# Altium footprint library Logic_Analyzer.PcbLib: 1 footprints
Each footprint in its own frame and in the unit in brackets; x right, y up, seen from the top. Pads: shape width x height; smd on the part's side, far side on the other; paste and mask are expansions set on the pad; w line width, h text height; cw(c..) or ccw(c..) is an arc to the next point about the centre after c.
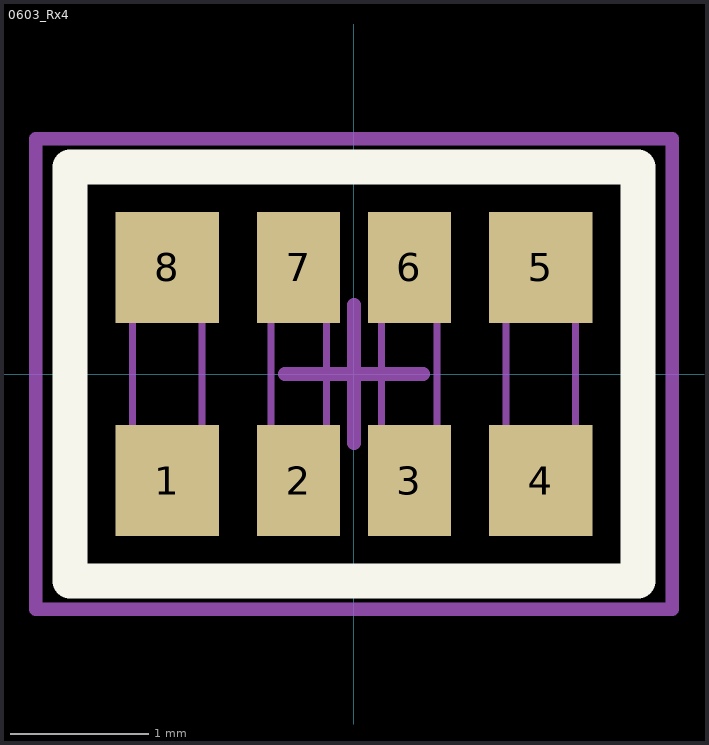
[diagram p0: the footprint, top view; thin cyan lines are the x and y axes]

## 0603_Rx4 [mm]
pads (8):
  rect 0.75x0.8 smd mask+0.051: 1(-1.35,-0.77) 4(1.35,-0.77) 5(1.35,0.77) 8(-1.35,0.77)
  rect 0.6x0.8 smd mask+0.051: 2(-0.4,-0.77) 3(0.4,-0.77) 6(0.4,0.77) 7(-0.4,0.77)
Top Overlay:
  lines w0.254: -2.052,-1.497 -2.052,1.497 2.052,1.497 2.052,-1.497 -2.052,-1.497
Mechanical 13:
  lines w0.05: -1.6,-0.8 -1.1,-0.8 -1.1,0.8 -1.6,0.8 -1.6,-0.8 ; -0.6,-0.8 -0.2,-0.8 -0.2,0.8 -0.6,0.8 -0.6,-0.8 ; 0.2,-0.8 0.6,-0.8 0.6,0.8 0.2,0.8 0.2,-0.8 ; 1.1,-0.8 1.6,-0.8 1.6,0.8 1.1,0.8 1.1,-0.8
Mechanical 15:
  lines w0.1: -0.5,0 0.5,0 ; 0,-0.5 0,0.5 ; -2.3,-1.7 -2.3,1.7 2.3,1.7 2.3,-1.7 -2.3,-1.7
3D body "SW3dPS-RN164P.STEP": height 0.55, standoff 0, extent -1.6,-0.8 1.6,0.8